# Altium footprint library BK8000L.PcbLib: 1 footprints
Each footprint in its own frame and in the unit in brackets; x right, y up, seen from the top. Pads: shape width x height; smd on the part's side, far side on the other; paste and mask are expansions set on the pad; w line width, h text height; cw(c..) or ccw(c..) is an arc to the next point about the centre after c.
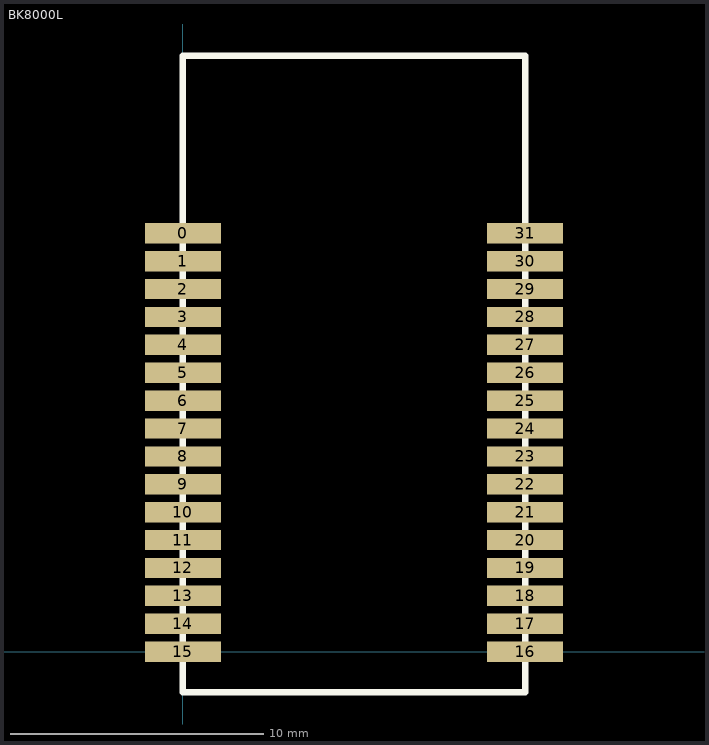
[diagram p0: the footprint, top view; thin cyan lines are the x and y axes]

## BK8000L [mm]
pads (32):
  rect 3x0.8 smd: 0(0,16.5) 1(0,15.4) 2(0,14.3) 3(0,13.2) 4(0,12.1) 5(0,11) 6(0,9.9) 7(0,8.8) 8(0,7.7) 9(0,6.6) 10(0,5.5) 11(0,4.4) 12(0,3.3) 13(0,2.2) 14(0,1.1) 15(0,0) 16(13.5,0) 17(13.5,1.1) 18(13.5,2.2) 19(13.5,3.3) 20(13.5,4.4) 21(13.5,5.5) 22(13.5,6.6) 23(13.5,7.7) 24(13.5,8.8) 25(13.5,9.9) 26(13.5,11) 27(13.5,12.1) 28(13.5,13.2) 29(13.5,14.3) 30(13.5,15.4) 31(13.5,16.5)
Top Overlay:
  lines w0.254: 0,-1.6 0,0 0,23.5 13.5,23.5 13.5,16.5 13.5,-1.6 0,-1.6